# Altium footprint library RLF7030T-2R2M5R4.PcbLib: 1 footprints
Each footprint in its own frame and in the unit in brackets; x right, y up, seen from the top. Pads: shape width x height; smd on the part's side, far side on the other; paste and mask are expansions set on the pad; w line width, h text height; cw(c..) or ccw(c..) is an arc to the next point about the centre after c.
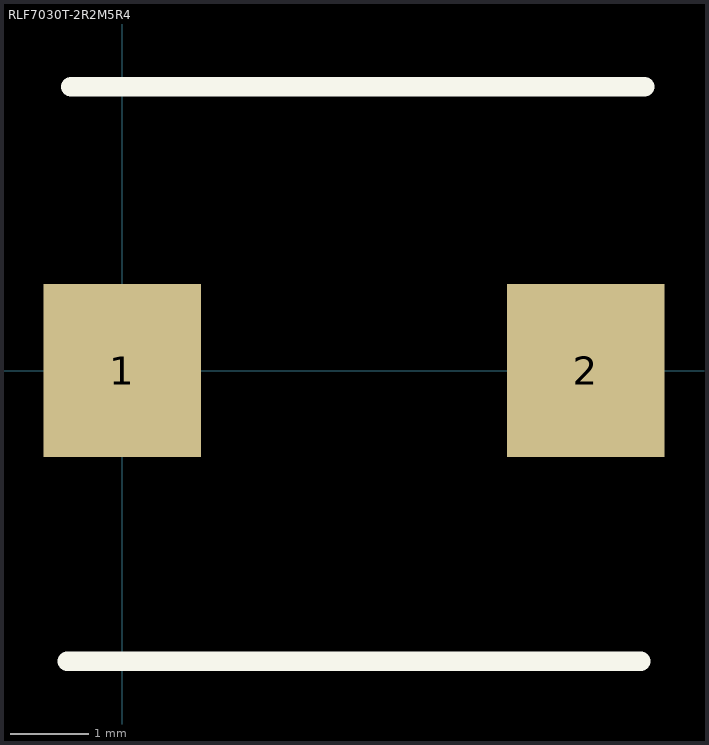
[diagram p0: the footprint, top view; thin cyan lines are the x and y axes]

## RLF7030T-2R2M5R4 [mm]
pads (2):
  rect 2x2.2 smd: 1(0,0) 2(5.9,0)
Top Overlay:
  lines w0.254: -0.7,-3.7 6.6,-3.7 ; -0.652,3.613 6.648,3.613